# Altium footprint library SG__PCB_HOLE_Passive.PcbLib: 23 footprints (part 2 of 2)
Each footprint in its own frame and in the unit in brackets; x right, y up, seen from the top. Pads: shape width x height; smd on the part's side, far side on the other; paste and mask are expansions set on the pad; w line width, h text height; cw(c..) or ccw(c..) is an arc to the next point about the centre after c.
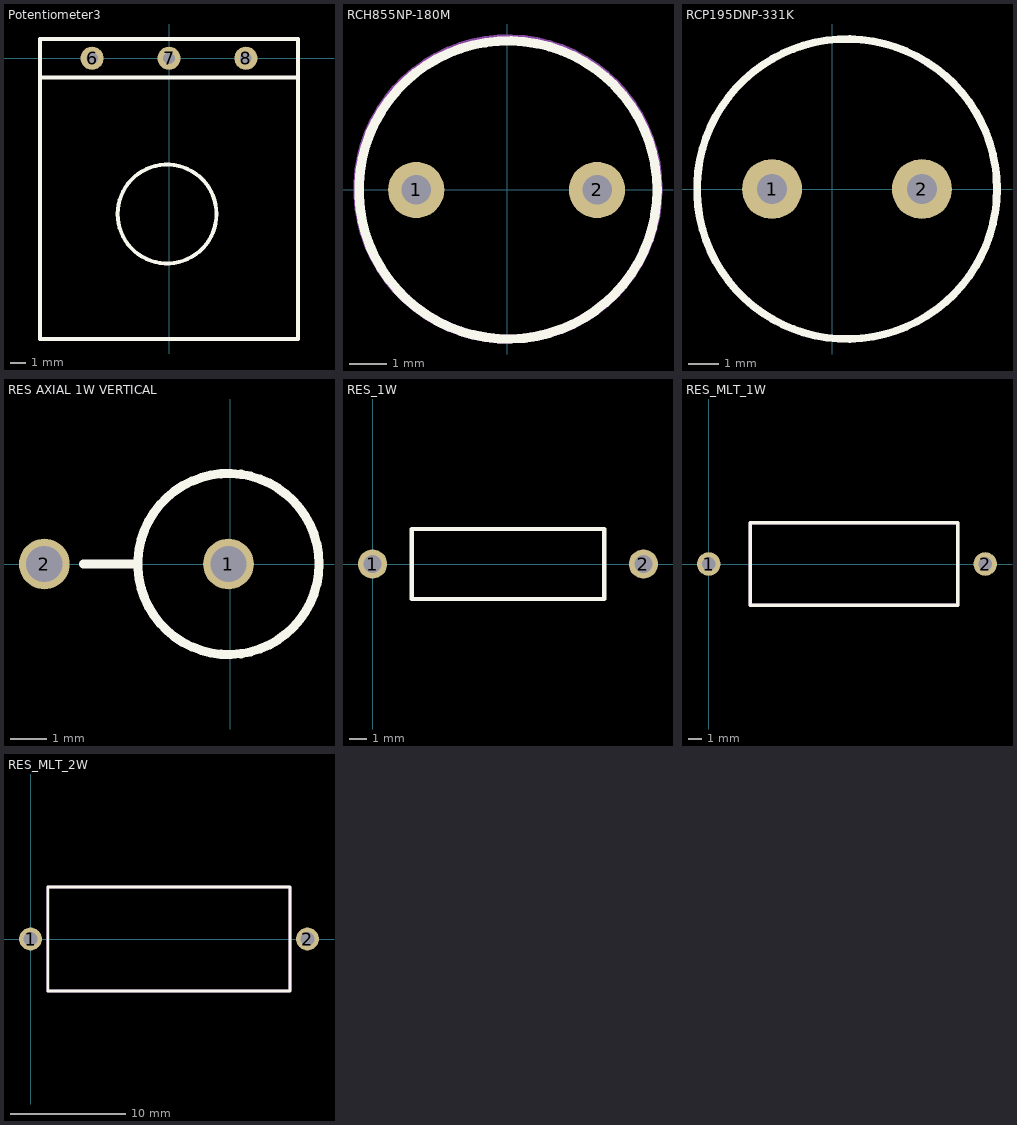
[diagram p1: the footprints below, top view; thin cyan lines are the x and y axes]

## Potentiometer3 [mil] "Potentiometer 5,08 vertical"
pads (3):
  round 60 hole 30: 6(-200,0) 7(0,0) 8(200,0)
Top Overlay:
  circle w10: c-5,-405 r128.55
  lines w10: -335,-50 335,-50 ; -335,-730 335,-730 335,50 -335,50 -335,-730
3D body "res_podstr4.stp": height 862.2, standoff -19.68, extent -334.55,-730.72 334.63,20

## RCH855NP-180M [mil]
pads (2):
  round 60 hole 31.5: 1(-97,0) 2(96,0)
Top Overlay:
  circle w10: c1,0 r159.02
Mechanical 15:
  circle w10: c0.97,1 r160.03

## RCP195DNP-331K [mm]
pads (2):
  round 2 hole 1: 1(-2,0) 2(3,0)
Top Overlay:
  circle w0.254: c0.5,0 r5.001
3D body: height 5, standoff 0, extent -4.5,-4.9 5.5,5.1

## RES AXIAL 1W VERTICAL [mm]
pads (2):
  round 1.4 hole 1: 1(-0.05,0) 2(-5.13,0)
Top Overlay:
  circle w0.25: c-0.05,0 r2.5
  lines w0.254: -4.05,0 -2.55,0
3D body "Axial Resistor-Vertical2.step": height 19.24, standoff -0.9, extent -5.537,-3.048 2.997,3.048

## RES_1W [mm]
pads (2):
  round 1.7 hole 1.05: 1(0,0) 2(15.748,0)
Top Overlay:
  lines w0.254: 2.286,-2.032 13.462,-2.032 13.462,2.032 2.286,2.032 2.286,-2.032
3D body "MLT 0.5.step": height 5.6, standoff -1.6, extent -0.426,-2.168 16.174,2.032

## RES_MLT_1W [mm]
pads (2):
  round 1.7 hole 1: 1(0,0) 2(20,0)
Top Overlay:
  lines w0.254: 3,-3 3,3 18,3 18,-3 3,-3
Top Assembly:
  lines w0.254: 3,-3 3,3 18,3 18,-3 3,-3
3D body "User Library-res_1watt_20,3mm.STEP": height 7.2, standoff -1.6, extent -0.562,-3.186 20.538,3.214

## RES_MLT_2W [mm]
pads (2):
  round 2 hole 1.2: 1(0,0) 2(24,0)
Top Overlay:
  lines w0.254: 1.492,-4.5 1.492,4.5 22.492,4.5 22.492,-4.5 1.492,-4.5
Top Assembly:
  lines w0.254: 1.5,-4.5 1.5,4.5 22.5,4.5 22.5,-4.5 1.5,-4.5
3D body "Resistor MLT-2.step": height 9.3, standoff -2.3, extent -0.407,-4.313 24.393,4.287